# EAGLE library part ALD1106 (library elecanisms)
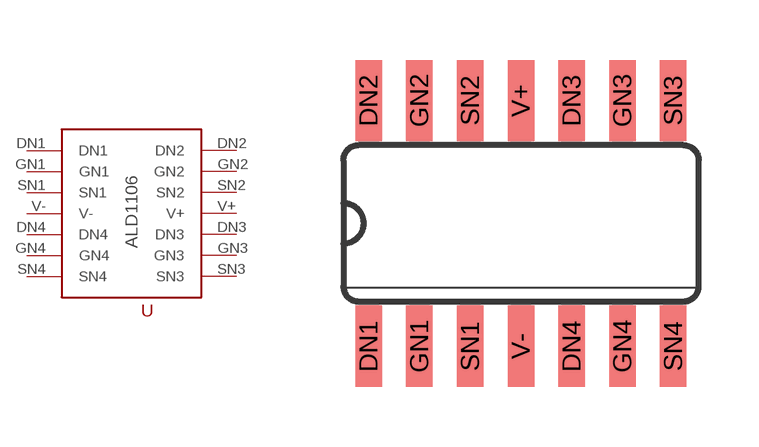
[diagram p2: symbol with the pads of SO14; footprint SO14]

Designator prefix -

## ALD1106  [SO14]
DN1  DN1
DN2  DN2
DN3  DN3
DN4  DN4
GN1  GN1
GN2  GN2
GN3  GN3
GN4  GN4
SN1  SN1
SN2  SN2
SN3  SN3
SN4  SN4
V+  V+
V-  V-

## Footprint SO14 (pad centres in mm)
Small Outline package 150 mil
smd 0.66 x 2.032: DN1 -3.81,-3.073; DN2 -3.81,3.073; DN3 1.27,3.073; DN4 1.27,-3.073; GN1 -2.54,-3.073; GN2 -2.54,3.073; GN3 2.54,3.073; GN4 2.54,-3.073; SN1 -1.27,-3.073; SN2 -1.27,3.073; SN3 3.81,3.073; SN4 3.81,-3.073; V+ 0,3.073; V- 0,-3.073